# Altium integrated library Infineon_Microcontroller.IntLib: 721 symbols (part 6 of 66)
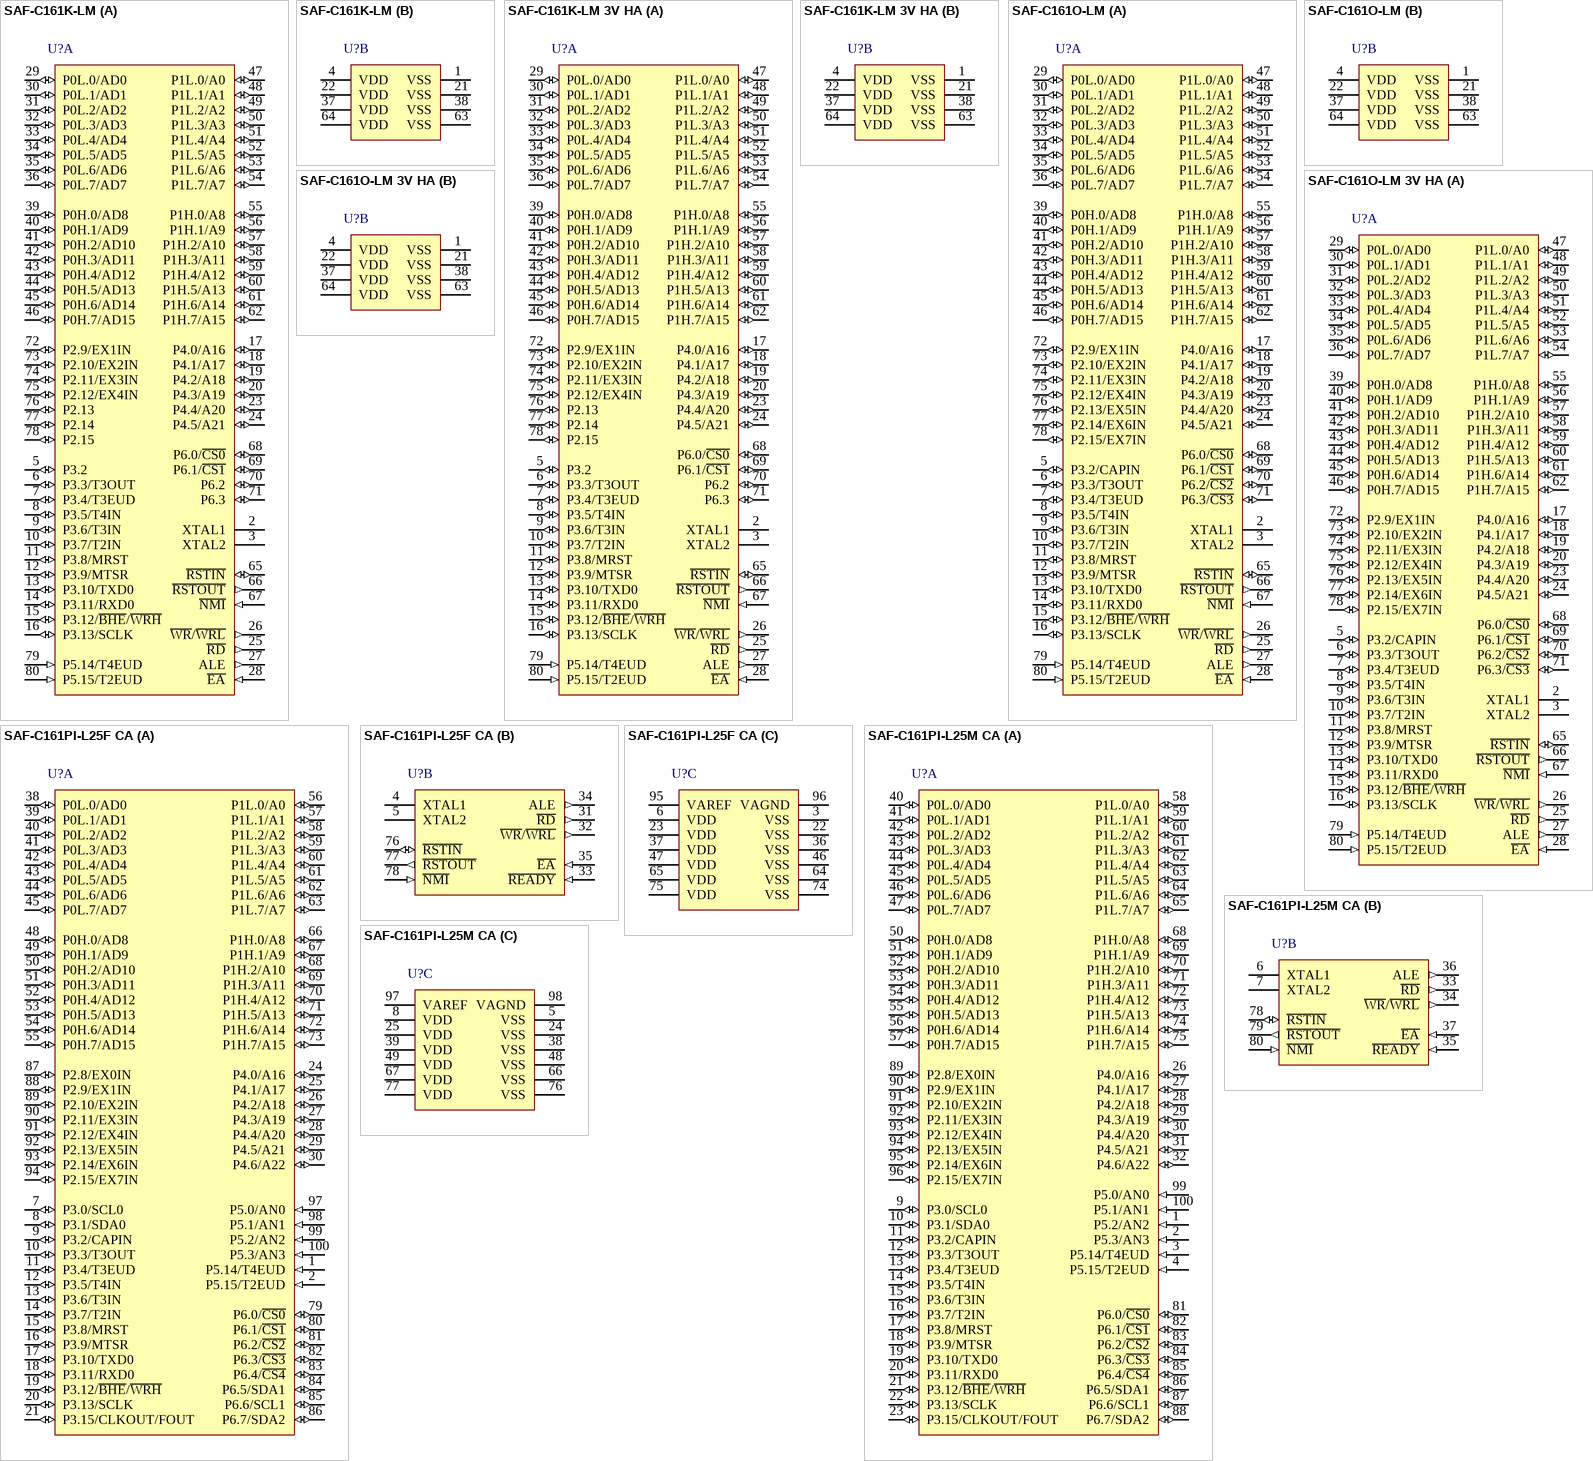
[diagram p123: symbols SAF-C161K-LM to SAF-C161PI-L25M CA]

## SAF-C161PI-L25F CA
designator U?
25 MHz C166 MCU without Program Memory, 3 KByte SRAM, 5 V, -40 to 85 degC, PG-TQFP-100, Reel, Green; Manufacturer: Infineon; PartNumber: SAF-C161PI-L25F CA; A / D input lines (incl. FADC): 4; CAN Nodes: 0; Digital I/O Lines: 76; DSP functionality (e.g MDU/MAC): TRUE; I/O Operation Voltages: 5 V; Instruction width [bits]: 16; Max Clock Frequency: 25 MHz; Number of ADC Modules: 1; Power Modes: 3; SRAM (incl. Cache): 3 KByte; Timer / Counter: 5; Type of Memory: ROM less; Type of Serial I/O Interfaces: ASC(1), SSC(1), I2C(1); PackageVersion: V2.0, 12/2000; PackageReference: P-TQFP-100-1; PackageDescription: 100-Pin Plastic Thin Metric Quad Flat Package, Body 14 x 14 mm, Pitch 0.5 mm; Supplier 1: Mouser; Supplier Part Number 1: 726-SAFC161PIL25FCA; Supplier 2: Digi-Key; Supplier Part Number 2: SAF-C161PI-L25FCAINTR-ND; Supplier 3: Digi-Key; Supplier Part Number 3: SAF-C161PI-L25FCAINCT-ND; Supplier 4: Digi-Key; Supplier Part Number 4: SAF-C161PI-L25FCAINDKR-ND; DMA Channels: 0; External Bus interface: TRUE; Green: TRUE; Halogen-free: TRUE; Oscillator Watchdog: TRUE; Packing: Reel; Real Time Clock (RTC): TRUE; Serial I/O Interfaces: 3; Timed I/O Pins (PWM-Ch,CAPCOM): 0; Watchdog Timer: TRUE; Mounting Technology: Surface Mount; ComponentLink1Description: Manufacturer URL; ComponentLink1URL: http://www.infineon.com/; ComponentLink2Description: Datasheet; ComponentLink2URL: http://www.infineon.com/dgdl/c161pi_ds_199907.pdf?folderId=db3a304412b407950112b4391ae36c3b&fileId=db3a304412b407950112b4391b6f6c3c; ComponentLink3Description: Package Specification; ComponentLink3URL: http://www.google.com/url?q=http://www.infineon.com/dgdl/c165_ds_v20_2000_12_1.pdf?folderId%3Ddb3a304412b407950112b408e8c90004%26fileId%3Ddb3a304412b407950112b43a4ef16fe7&sa=D&usg=ALhdy28l__9bJHCFc89ioLI6B1XModLc3w
footprint INF-P-TQFP-100-1_N (QFP, 100-Leads, Body 14x14mm, Pitch 0.5mm, IPC Medium Density)
footprint INF-P-TQFP-100-1_L (QFP, 100-Leads, Body 14x14mm, Pitch 0.5mm, IPC High Density)
footprint INF-P-TQFP-100-1_M (QFP, 100-Leads, Body 14x14mm, Pitch 0.5mm, IPC Low Density)
part A pins: 1 P5.14/T4EUD (in), 2 P5.15/T2EUD (in), 7 P3.0/SCL0 (io), 8 P3.1/SDA0 (io), 9 P3.2/CAPIN (io), 10 P3.3/T3OUT (io), 11 P3.4/T3EUD (io), 12 P3.5/T4IN (io), 13 P3.6/T3IN (io), 14 P3.7/T2IN (io), 15 P3.8/MRST (io), 16 P3.9/MTSR (io), 17 P3.10/TXD0 (io), 18 P3.11/RXD0 (io), 19 P3.12/~{BHE}/~{WRH} (io), 20 P3.13/SCLK (io), 21 P3.15/CLKOUT/FOUT (io), 24 P4.0/A16 (io), 25 P4.1/A17 (io), 26 P4.2/A18 (io), 27 P4.3/A19 (io), 28 P4.4/A20 (io), 29 P4.5/A21 (io), 30 P4.6/A22 (io), 38 P0L.0/AD0 (io), 39 P0L.1/AD1 (io), 40 P0L.2/AD2 (io), 41 P0L.3/AD3 (io), 42 P0L.4/AD4 (io), 43 P0L.5/AD5 (io), 44 P0L.6/AD6 (io), 45 P0L.7/AD7 (io), 48 P0H.0/AD8 (io), 49 P0H.1/AD9 (io), 50 P0H.2/AD10 (io), 51 P0H.3/AD11 (io), 52 P0H.4/AD12 (io), 53 P0H.5/AD13 (io), 54 P0H.6/AD14 (io), 55 P0H.7/AD15 (io), 56 P1L.0/A0 (io), 57 P1L.1/A1 (io), 58 P1L.2/A2 (io), 59 P1L.3/A3 (io), 60 P1L.4/A4 (io), 61 P1L.5/A5 (io), 62 P1L.6/A6 (io), 63 P1L.7/A7 (io), 66 P1H.0/A8 (io), 67 P1H.1/A9 (io), 68 P1H.2/A10 (io), 69 P1H.3/A11 (io), 70 P1H.4/A12 (io), 71 P1H.5/A13 (io), 72 P1H.6/A14 (io), 73 P1H.7/A15 (io), 79 P6.0/~{CS0} (io), 80 P6.1/~{CS1} (io), 81 P6.2/~{CS2} (io), 82 P6.3/~{CS3} (io), 83 P6.4/~{CS4} (io), 84 P6.5/SDA1 (io), 85 P6.6/SCL1 (io), 86 P6.7/SDA2 (io), 87 P2.8/EX0IN (io), 88 P2.9/EX1IN (io), 89 P2.10/EX2IN (io), 90 P2.11/EX3IN (io), 91 P2.12/EX4IN (io), 92 P2.13/EX5IN (io), 93 P2.14/EX6IN (io), 94 P2.15/EX7IN (io), 97 P5.0/AN0 (in), 98 P5.1/AN1 (in), 99 P5.2/AN2 (in), 100 P5.3/AN3 (in)
part B pins: 4 XTAL1 "Input to the oscillator amplifier and input to the internal clock generator", 5 XTAL2 "Output of the oscillator amplifier circuit", 31 ~{RD} (out) "External Memory Read Strobe. R\D\ is activated for every external instruction or data read access.", 32 ~{WR}/~{WRL} (out) "External Memory Write Strobe. In W\R\-mode this pin is activated for every external data write access. In W\R\L\-mode this pin is activated for low byte data write accesses on a 16-bit bus, and for every data write access on (See Datasheet)", 33 ~{READY} (in) "Ready Input. When the Ready function is enabled, a high level at this pin during an external memory access will force the insertion of memory cycle time waitstates until the pin returns to a low level.An internal pullup (See Datasheet)", 34 ALE (out) "Address Latch Enable Output. Can be used for latching the address into external memory or an address latch in the multiplexed bus modes", 35 ~{EA} (in) "External Access Enable pin. A low level at this pin during and after Reset forces the C161PI to begin instruction execution out of external memory. A high level forces execution out of the internal program memory. "ROMless" (See Datasheet)", 76 ~{RSTIN} (io) "Reset Input with Schmitt-Trigger characteristics. A low level at this pin while the oscillator is  running resets the C161PI. An internal pullup resistor permits power-on reset using only a capacitor connected to 9SS. A (See Datasheet)", 77 ~{RSTOUT} (out) "Internal Reset Indication Output. This pin is set to a low level when the part is executing either a hardware-, a software- or a watchdog timer reset. R\S\T\O\U\T\ remains low until the EINIT (end of initialization) (See Datasheet)", 78 ~{NMI} (in) "Non-Maskable Interrupt Input. A high to low transition at this pin causes the CPU to vector to the NMI trap routine. When the PWRDN (power down) instruction is executed, the N\M\I\ pin must be low in order to force the (See Datasheet)"
part C pins: 3 VSS (power) "Digital Ground.", 6 VDD (power) "Digital Supply Voltage:+ 5 V or + 3 V during normal operation and idle mode.>= 2.5 V during power down mode", 22 VSS (power) "Digital Ground.", 23 VDD (power) "Digital Supply Voltage:+ 5 V or + 3 V during normal operation and idle mode.= 2.5 V during power down mode", 36 VSS (power) "Digital Ground.", 37 VDD (power) "Digital Supply Voltage:+ 5 V or + 3 V during normal operation and idle mode.>= 2.5 V during power down mode", 46 VSS (power) "Digital Ground.", 47 VDD (power) "Digital Supply Voltage:+ 5 V or + 3 V during normal operation and idle mode.= 2.5 V during power down mode", 64 VSS (power) "Digital Ground.", 65 VDD (power) "Digital Supply Voltage:+ 5 V or + 3 V during normal operation and idle mode.= 2.5 V during power down mode", 74 VSS (power) "Digital Ground.", 75 VDD (power) "Digital Supply Voltage:+ 5 V or + 3 V during normal operation and idle mode.= 2.5 V during power down mode", 95 VAREF (power) "Reference voltage for the A/D converter.", 96 VAGND (power) "Reference ground for the A/D converter."

## SAF-C161PI-L25M CA
designator U?
25 MHz C166 MCU without Program Memory, 3 KByte SRAM, 5 V, -40 to 85 degC, PG-MQFP-100, Reel, Green; Manufacturer: Infineon; PartNumber: SAF-C161PI-L25M CA; A / D input lines (incl. FADC): 4; CAN Nodes: 0; Digital I/O Lines: 76; DSP functionality (e.g MDU/MAC): TRUE; I/O Operation Voltages: 5 V; Instruction width [bits]: 16; Max Clock Frequency: 25 MHz; Number of ADC Modules: 1; Power Modes: 3; SRAM (incl. Cache): 3 KByte; Timer / Counter: 5; Type of Memory: ROM less; Type of Serial I/O Interfaces: ASC(1), SSC(1), I2C(1); PackageReference: P-MQFP-100-2; PackageDescription: 100-Pin Plastic Metric Quad Flat Package, Body 20 x 14 mm, Pitch 0.65 mm; Supplier 1: Mouser; Supplier Part Number 1: 726-SAFC161PIL25MCA; Supplier 2: Digi-Key; Supplier Part Number 2: SAF-C161PI-L25MCAINTR-ND; Supplier 3: Digi-Key; Supplier Part Number 3: SAF-C161PI-L25MCAINCT-ND; DMA Channels: 0; External Bus interface: TRUE; Green: TRUE; Halogen-free: TRUE; Oscillator Watchdog: TRUE; Packing: Reel; Real Time Clock (RTC): TRUE; Serial I/O Interfaces: 3; Timed I/O Pins (PWM-Ch,CAPCOM): 0; Watchdog Timer: TRUE; Mounting Technology: Surface Mount; ComponentLink1Description: Manufacturer URL; ComponentLink1URL: http://www.infineon.com/; ComponentLink2Description: Datasheet; ComponentLink2URL: http://www.infineon.com/dgdl/c161pi_ds_199907.pdf?folderId=db3a304412b407950112b4391ae36c3b&fileId=db3a304412b407950112b4391b6f6c3c; ComponentLink3Description: Package Specification; ComponentLink3URL: http://www.infineon.com/cms/packages/SMD_-_Surface_Mounted_Devices/P-PG-MQFP/P-PG-MQFP-100-02.html?__locale=en
footprint INF-P-MQFP-100-2_N (QFP, 100-Leads, Body 20x14mm, Pitch 0.65mm, IPC Medium Density)
footprint INF-P-MQFP-100-2_L (QFP, 100-Leads, Body 20x14mm, Pitch 0.65mm, IPC High Density)
footprint INF-P-MQFP-100-2_M (QFP, 100-Leads, Body 20x14mm, Pitch 0.65mm, IPC Low Density)
part A pins: 1 P5.2/AN2 (in), 2 P5.3/AN3 (in), 3 P5.14/T4EUD (in), 4 P5.15/T2EUD (in), 9 P3.0/SCL0 (io), 10 P3.1/SDA0 (io), 11 P3.2/CAPIN (io), 12 P3.3/T3OUT (io), 13 P3.4/T3EUD (io), 14 P3.5/T4IN (io), 15 P3.6/T3IN (io), 16 P3.7/T2IN (io), 17 P3.8/MRST (io), 18 P3.9/MTSR (io), 19 P3.10/TXD0 (io), 20 P3.11/RXD0 (io), 21 P3.12/~{BHE}/~{WRH} (io), 22 P3.13/SCLK (io), 23 P3.15/CLKOUT/FOUT (io), 26 P4.0/A16 (io), 27 P4.1/A17 (io), 28 P4.2/A18 (io), 29 P4.3/A19 (io), 30 P4.4/A20 (io), 31 P4.5/A21 (io), 32 P4.6/A22 (io), 40 P0L.0/AD0 (io), 41 P0L.1/AD1 (io), 42 P0L.2/AD2 (io), 43 P0L.3/AD3 (io), 44 P0L.4/AD4 (io), 45 P0L.5/AD5 (io), 46 P0L.6/AD6 (io), 47 P0L.7/AD7 (io), 50 P0H.0/AD8 (io), 51 P0H.1/AD9 (io), 52 P0H.2/AD10 (io), 53 P0H.3/AD11 (io), 54 P0H.4/AD12 (io), 55 P0H.5/AD13 (io), 56 P0H.6/AD14 (io), 57 P0H.7/AD15 (io), 58 P1L.0/A0 (io), 59 P1L.1/A1 (io), 60 P1L.2/A2 (io), 61 P1L.3/A3 (io), 62 P1L.4/A4 (io), 63 P1L.5/A5 (io), 64 P1L.6/A6 (io), 65 P1L.7/A7 (io), 68 P1H.0/A8 (io), 69 P1H.1/A9 (io), 70 P1H.2/A10 (io), 71 P1H.3/A11 (io), 72 P1H.4/A12 (io), 73 P1H.5/A13 (io), 74 P1H.6/A14 (io), 75 P1H.7/A15 (io), 81 P6.0/~{CS0} (io), 82 P6.1/~{CS1} (io), 83 P6.2/~{CS2} (io), 84 P6.3/~{CS3} (io), 85 P6.4/~{CS4} (io), 86 P6.5/SDA1 (io), 87 P6.6/SCL1 (io), 88 P6.7/SDA2 (io), 89 P2.8/EX0IN (io), 90 P2.9/EX1IN (io), 91 P2.10/EX2IN (io), 92 P2.11/EX3IN (io), 93 P2.12/EX4IN (io), 94 P2.13/EX5IN (io), 95 P2.14/EX6IN (io), 96 P2.15/EX7IN (io), 99 P5.0/AN0 (in), 100 P5.1/AN1 (in)
part B pins: 6 XTAL1 "Input to the oscillator amplifier and input to the internal clock generator", 7 XTAL2 "Output of the oscillator amplifier circuit", 33 ~{RD} (out) "External Memory Read Strobe. R\D\ is activated for every external instruction or data read access.", 34 ~{WR}/~{WRL} (out) "External Memory Write Strobe. In W\R\-mode this pin is activated for every external data write access. In W\R\L\mode this pin is activated for low byte data write accesses on a 16-bit bus, and for every data write access on (See Datasheet)", 35 ~{READY} (in) "Ready Input. When the Ready function is enabled, a high level at this pin during an external memory access will force the insertion of memory cycle time waitstates until the pin returns to a low level.An internal pullup (See Datasheet)", 36 ALE (out) "Address Latch Enable Output. Can be used for latching the address into external memory or an address latch in the multiplexed bus modes", 37 ~{EA} (in) "External Access Enable pin. A low level at this pin during and after Reset forces the C161PI to begin instruction execution out of external memory. A high level forces execution out of the internal program memory. "ROMless" (See Datasheet)", 78 ~{RSTIN} (io) "Reset Input with Schmitt-Trigger characteristics. A low level at this pin while the oscillator is  running resets the C161PI. An internal pullup resistor permits power-on reset using only a capacitor connected to 9SS. A (See Datasheet)", 79 ~{RSTOUT} (out) "Internal Reset Indication Output. This pin is set to a low level when the part is executing either a hardware-, a software- or a watchdog timer reset. R\S\T\O\U\T\ remains low until the EINIT (end of initialization) (See Datasheet)", 80 ~{NMI} (in) "Non-Maskable Interrupt Input. A high to low transition at this pin causes the CPU to vector to the NMI trap routine. When the PWRDN (power down) instruction is executed, the N\M\I\ pin must be low in order to force the (See Datasheet)"
part C pins: 5 VSS (power) "Digital Ground.", 8 VDD (power) "Digital Supply Voltage:+ 5 V or + 3 V during normal operation and idle mode.>= 2.5 V during power down mode", 24 VSS (power) "Digital Ground.", 25 VDD (power) "Digital Supply Voltage:+ 5 V or + 3 V during normal operation and idle mode.= 2.5 V during power down mode", 38 VSS (power) "Digital Ground.", 39 VDD (power) "Digital Supply Voltage:+ 5 V or + 3 V during normal operation and idle mode.>= 2.5 V during power down mode", 48 VSS (power) "Digital Ground.", 49 VDD (power) "Digital Supply Voltage:+ 5 V or + 3 V during normal operation and idle mode.= 2.5 V during power down mode", 66 VSS (power) "Digital Ground.", 67 VDD (power) "Digital Supply Voltage:+ 5 V or + 3 V during normal operation and idle mode.= 2.5 V during power down mode", 76 VSS (power) "Digital Ground.", 77 VDD (power) "Digital Supply Voltage:+ 5 V or + 3 V during normal operation and idle mode.= 2.5 V during power down mode", 97 VAREF (power) "Reference voltage for the A/D converter.", 98 VAGND (power) "Reference ground for the A/D converter."

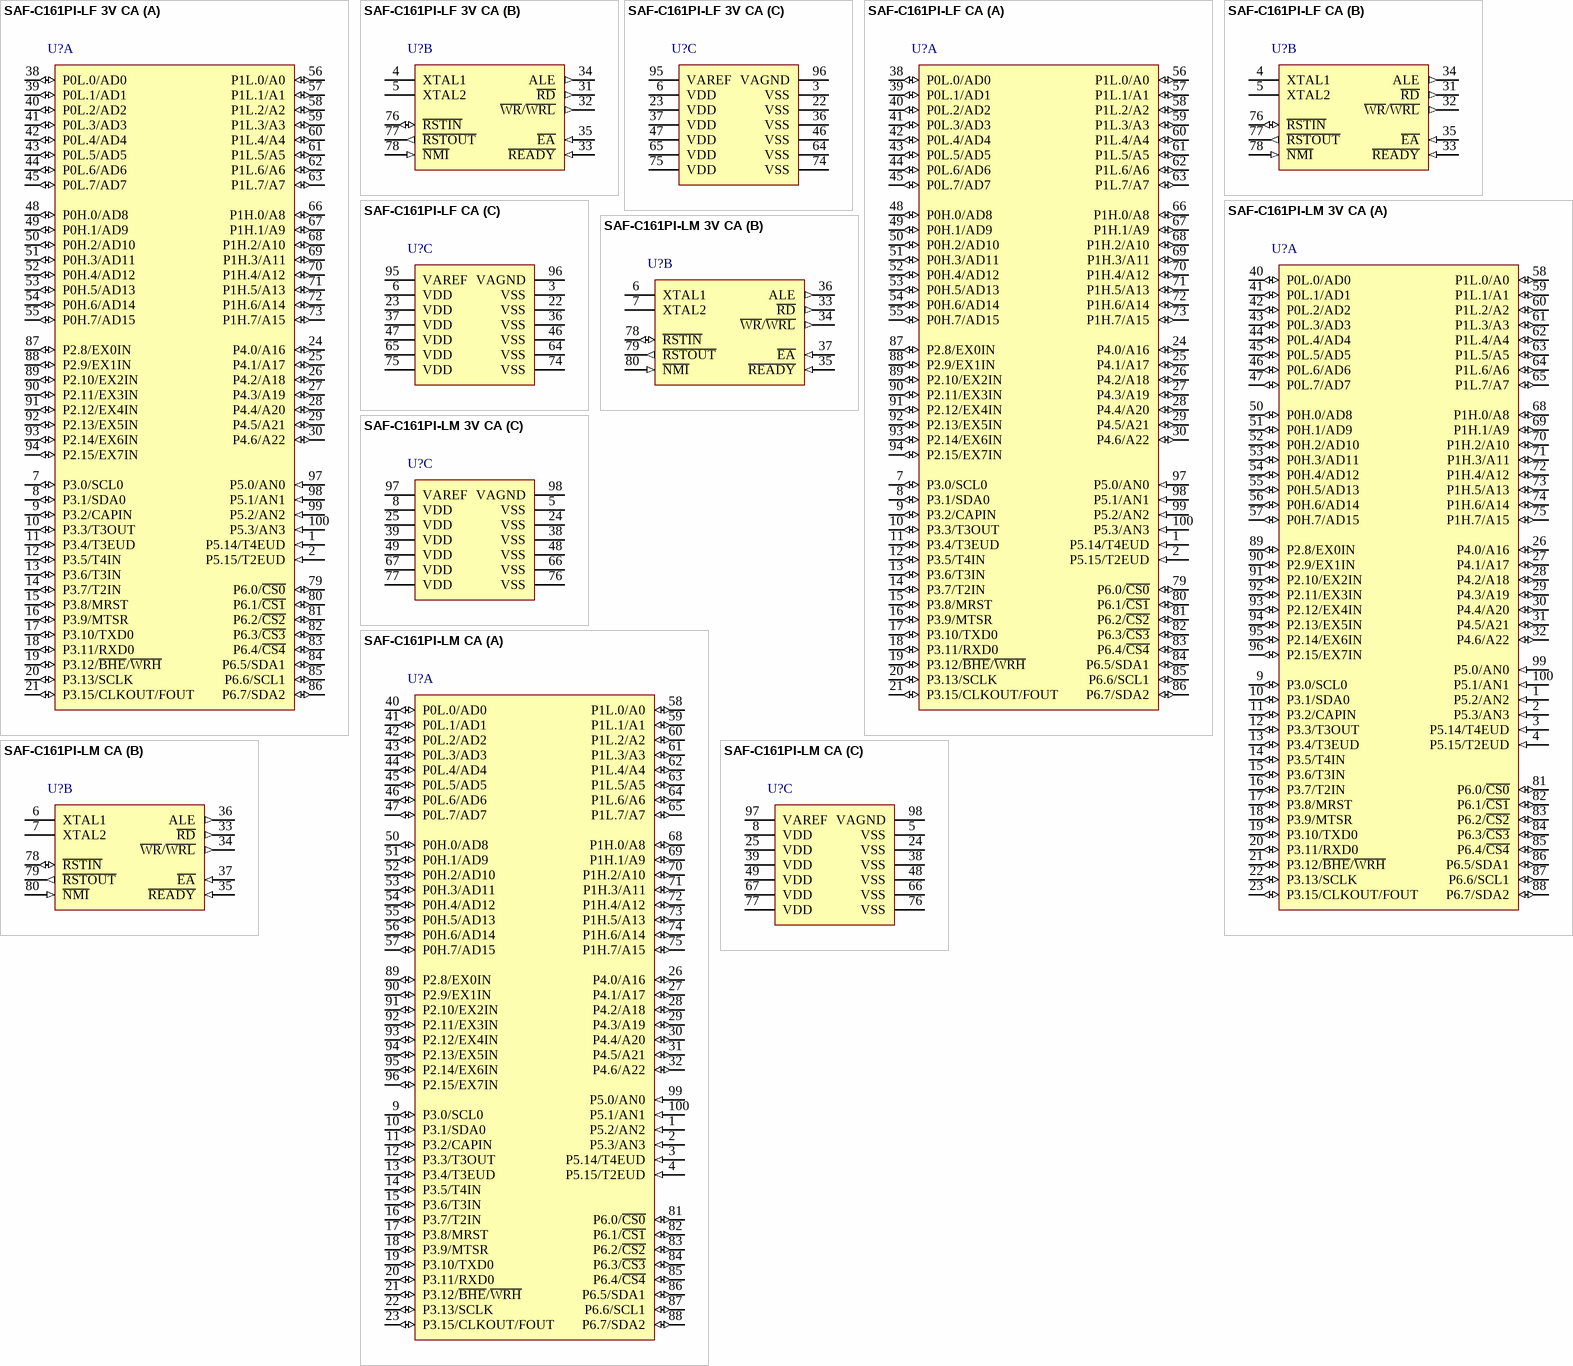
[diagram p8: symbols SAF-C161PI-LF 3V CA to SAF-C161PI-LM CA]

## SAF-C161PI-LF 3V CA
designator U?
20 MHz C166 MCU without Program Memory, 3 KByte SRAM, 3.3 V, -40 to 85 degC, PG-TQFP-100, Reel, Green; Manufacturer: Infineon; PartNumber: SAF-C161PI-LF 3V CA; A / D input lines (incl. FADC): 4; CAN Nodes: 0; Digital I/O Lines: 76; DSP functionality (e.g MDU/MAC): TRUE; I/O Operation Voltages: 3.3 V; Instruction width [bits]: 16; Max Clock Frequency: 20 MHz; Number of ADC Modules: 1; Power Modes: 3; SRAM (incl. Cache): 3 KByte; Timer / Counter: 5; Type of Memory: ROM less; Type of Serial I/O Interfaces: ASC(1), SSC(1), I2C(1); PackageVersion: V2.0, 12/2000; PackageReference: P-TQFP-100-1; PackageDescription: 100-Pin Plastic Thin Metric Quad Flat Package, Body 14 x 14 mm, Pitch 0.5 mm; Supplier 1: Digi-Key; Supplier Part Number 1: SAF-C161PI-LF3VCAINTR-ND; Supplier 2: Digi-Key; Supplier Part Number 2: SAF-C161PI-LF3VCAINCT-ND; Supplier 3: Digi-Key; Supplier Part Number 3: SAF-C161PI-LF3VCAINDKR-ND; DMA Channels: 0; External Bus interface: TRUE; Green: TRUE; Halogen-free: TRUE; Oscillator Watchdog: TRUE; Packing: Reel; Real Time Clock (RTC): TRUE; Serial I/O Interfaces: 3; Timed I/O Pins (PWM-Ch,CAPCOM): 0; Watchdog Timer: TRUE; Mounting Technology: Surface Mount; ComponentLink1Description: Manufacturer URL; ComponentLink1URL: http://www.infineon.com/; ComponentLink2Description: Datasheet; ComponentLink2URL: http://www.infineon.com/dgdl/c161pi_ds_199907.pdf?folderId=db3a304412b407950112b4391ae36c3b&fileId=db3a304412b407950112b4391b6f6c3c; ComponentLink3Description: Package Specification; ComponentLink3URL: http://www.google.com/url?q=http://www.infineon.com/dgdl/c165_ds_v20_2000_12_1.pdf?folderId%3Ddb3a304412b407950112b408e8c90004%26fileId%3Ddb3a304412b407950112b43a4ef16fe7&sa=D&usg=ALhdy28l__9bJHCFc89ioLI6B1XModLc3w
footprint INF-P-TQFP-100-1_N (QFP, 100-Leads, Body 14x14mm, Pitch 0.5mm, IPC Medium Density)
footprint INF-P-TQFP-100-1_L (QFP, 100-Leads, Body 14x14mm, Pitch 0.5mm, IPC High Density)
footprint INF-P-TQFP-100-1_M (QFP, 100-Leads, Body 14x14mm, Pitch 0.5mm, IPC Low Density)
part A pins: 1 P5.14/T4EUD (in), 2 P5.15/T2EUD (in), 7 P3.0/SCL0 (io), 8 P3.1/SDA0 (io), 9 P3.2/CAPIN (io), 10 P3.3/T3OUT (io), 11 P3.4/T3EUD (io), 12 P3.5/T4IN (io), 13 P3.6/T3IN (io), 14 P3.7/T2IN (io), 15 P3.8/MRST (io), 16 P3.9/MTSR (io), 17 P3.10/TXD0 (io), 18 P3.11/RXD0 (io), 19 P3.12/~{BHE}/~{WRH} (io), 20 P3.13/SCLK (io), 21 P3.15/CLKOUT/FOUT (io), 24 P4.0/A16 (io), 25 P4.1/A17 (io), 26 P4.2/A18 (io), 27 P4.3/A19 (io), 28 P4.4/A20 (io), 29 P4.5/A21 (io), 30 P4.6/A22 (io), 38 P0L.0/AD0 (io), 39 P0L.1/AD1 (io), 40 P0L.2/AD2 (io), 41 P0L.3/AD3 (io), 42 P0L.4/AD4 (io), 43 P0L.5/AD5 (io), 44 P0L.6/AD6 (io), 45 P0L.7/AD7 (io), 48 P0H.0/AD8 (io), 49 P0H.1/AD9 (io), 50 P0H.2/AD10 (io), 51 P0H.3/AD11 (io), 52 P0H.4/AD12 (io), 53 P0H.5/AD13 (io), 54 P0H.6/AD14 (io), 55 P0H.7/AD15 (io), 56 P1L.0/A0 (io), 57 P1L.1/A1 (io), 58 P1L.2/A2 (io), 59 P1L.3/A3 (io), 60 P1L.4/A4 (io), 61 P1L.5/A5 (io), 62 P1L.6/A6 (io), 63 P1L.7/A7 (io), 66 P1H.0/A8 (io), 67 P1H.1/A9 (io), 68 P1H.2/A10 (io), 69 P1H.3/A11 (io), 70 P1H.4/A12 (io), 71 P1H.5/A13 (io), 72 P1H.6/A14 (io), 73 P1H.7/A15 (io), 79 P6.0/~{CS0} (io), 80 P6.1/~{CS1} (io), 81 P6.2/~{CS2} (io), 82 P6.3/~{CS3} (io), 83 P6.4/~{CS4} (io), 84 P6.5/SDA1 (io), 85 P6.6/SCL1 (io), 86 P6.7/SDA2 (io), 87 P2.8/EX0IN (io), 88 P2.9/EX1IN (io), 89 P2.10/EX2IN (io), 90 P2.11/EX3IN (io), 91 P2.12/EX4IN (io), 92 P2.13/EX5IN (io), 93 P2.14/EX6IN (io), 94 P2.15/EX7IN (io), 97 P5.0/AN0 (in), 98 P5.1/AN1 (in), 99 P5.2/AN2 (in), 100 P5.3/AN3 (in)
part B pins: 4 XTAL1 "Input to the oscillator amplifier and input to the internal clock generator", 5 XTAL2 "Output of the oscillator amplifier circuit", 31 ~{RD} (out) "External Memory Read Strobe. R\D\ is activated for every external instruction or data read access.", 32 ~{WR}/~{WRL} (out) "External Memory Write Strobe. In W\R\-mode this pin is activated for every external data write access. In W\R\L\-mode this pin is activated for low byte data write accesses on a 16-bit bus, and for every data write access on (See Datasheet)", 33 ~{READY} (in) "Ready Input. When the Ready function is enabled, a high level at this pin during an external memory access will force the insertion of memory cycle time waitstates until the pin returns to a low level.An internal pullup (See Datasheet)", 34 ALE (out) "Address Latch Enable Output. Can be used for latching the address into external memory or an address latch in the multiplexed bus modes", 35 ~{EA} (in) "External Access Enable pin. A low level at this pin during and after Reset forces the C161PI to begin instruction execution out of external memory. A high level forces execution out of the internal program memory. "ROMless" (See Datasheet)", 76 ~{RSTIN} (io) "Reset Input with Schmitt-Trigger characteristics. A low level at this pin while the oscillator is  running resets the C161PI. An internal pullup resistor permits power-on reset using only a capacitor connected to 9SS. A (See Datasheet)", 77 ~{RSTOUT} (out) "Internal Reset Indication Output. This pin is set to a low level when the part is executing either a hardware-, a software- or a watchdog timer reset. R\S\T\O\U\T\ remains low until the EINIT (end of initialization) (See Datasheet)", 78 ~{NMI} (in) "Non-Maskable Interrupt Input. A high to low transition at this pin causes the CPU to vector to the NMI trap routine. When the PWRDN (power down) instruction is executed, the N\M\I\ pin must be low in order to force the (See Datasheet)"
part C pins: 3 VSS (power) "Digital Ground.", 6 VDD (power) "Digital Supply Voltage:+ 5 V or + 3 V during normal operation and idle mode.>= 2.5 V during power down mode", 22 VSS (power) "Digital Ground.", 23 VDD (power) "Digital Supply Voltage:+ 5 V or + 3 V during normal operation and idle mode.= 2.5 V during power down mode", 36 VSS (power) "Digital Ground.", 37 VDD (power) "Digital Supply Voltage:+ 5 V or + 3 V during normal operation and idle mode.>= 2.5 V during power down mode", 46 VSS (power) "Digital Ground.", 47 VDD (power) "Digital Supply Voltage:+ 5 V or + 3 V during normal operation and idle mode.= 2.5 V during power down mode", 64 VSS (power) "Digital Ground.", 65 VDD (power) "Digital Supply Voltage:+ 5 V or + 3 V during normal operation and idle mode.= 2.5 V during power down mode", 74 VSS (power) "Digital Ground.", 75 VDD (power) "Digital Supply Voltage:+ 5 V or + 3 V during normal operation and idle mode.= 2.5 V during power down mode", 95 VAREF (power) "Reference voltage for the A/D converter.", 96 VAGND (power) "Reference ground for the A/D converter."

## SAF-C161PI-LF CA
designator U?
20 MHz C166 MCU without Program Memory, 3 KByte SRAM, 5 V, -40 to 85 degC, PG-TQFP-100, Reel, Green; Manufacturer: Infineon; PartNumber: SAF-C161PI-LF CA; A / D input lines (incl. FADC): 4; CAN Nodes: 0; Digital I/O Lines: 76; DSP functionality (e.g MDU/MAC): TRUE; I/O Operation Voltages: 5 V; Instruction width [bits]: 16; Max Clock Frequency: 20 MHz; Number of ADC Modules: 1; Power Modes: 3; SRAM (incl. Cache): 3 KByte; Timer / Counter: 5; Type of Memory: ROM less; Type of Serial I/O Interfaces: ASC(1), SSC(1), I2C(1); PackageVersion: V2.0, 12/2000; PackageReference: P-TQFP-100-1; PackageDescription: 100-Pin Plastic Thin Metric Quad Flat Package, Body 14 x 14 mm, Pitch 0.5 mm; Supplier 1: Mouser; Supplier Part Number 1: 726-SAFC161PILFCA; Supplier 2: Newark; Supplier Part Number 2: 47W3689; Supplier 3: Farnell; Supplier Part Number 3: 2212017; Supplier 4: Digi-Key; Supplier Part Number 4: SAF-C161PI-LFCAINTR-ND; Supplier 5: Digi-Key; Supplier Part Number 5: SAF-C161PI-LFCAINCT-ND; Supplier 6: Digi-Key; Supplier Part Number 6: SAF-C161PI-LFCAINDKR-ND; DMA Channels: 0; External Bus interface: TRUE; Green: TRUE; Halogen-free: TRUE; Oscillator Watchdog: TRUE; Packing: Reel; Real Time Clock (RTC): TRUE; Serial I/O Interfaces: 3; Timed I/O Pins (PWM-Ch,CAPCOM): 0; Watchdog Timer: TRUE; Mounting Technology: Surface Mount; ComponentLink1Description: Manufacturer URL; ComponentLink1URL: http://www.infineon.com/; ComponentLink2Description: Datasheet; ComponentLink2URL: http://www.infineon.com/dgdl/c161pi_ds_199907.pdf?folderId=db3a304412b407950112b4391ae36c3b&fileId=db3a304412b407950112b4391b6f6c3c; ComponentLink3Description: Package Specification; ComponentLink3URL: http://www.google.com/url?q=http://www.infineon.com/dgdl/c165_ds_v20_2000_12_1.pdf?folderId%3Ddb3a304412b407950112b408e8c90004%26fileId%3Ddb3a304412b407950112b43a4ef16fe7&sa=D&usg=ALhdy28l__9bJHCFc89ioLI6B1XModLc3w
footprint INF-P-TQFP-100-1_N (QFP, 100-Leads, Body 14x14mm, Pitch 0.5mm, IPC Medium Density)
footprint INF-P-TQFP-100-1_L (QFP, 100-Leads, Body 14x14mm, Pitch 0.5mm, IPC High Density)
footprint INF-P-TQFP-100-1_M (QFP, 100-Leads, Body 14x14mm, Pitch 0.5mm, IPC Low Density)
part A pins: 1 P5.14/T4EUD (in), 2 P5.15/T2EUD (in), 7 P3.0/SCL0 (io), 8 P3.1/SDA0 (io), 9 P3.2/CAPIN (io), 10 P3.3/T3OUT (io), 11 P3.4/T3EUD (io), 12 P3.5/T4IN (io), 13 P3.6/T3IN (io), 14 P3.7/T2IN (io), 15 P3.8/MRST (io), 16 P3.9/MTSR (io), 17 P3.10/TXD0 (io), 18 P3.11/RXD0 (io), 19 P3.12/~{BHE}/~{WRH} (io), 20 P3.13/SCLK (io), 21 P3.15/CLKOUT/FOUT (io), 24 P4.0/A16 (io), 25 P4.1/A17 (io), 26 P4.2/A18 (io), 27 P4.3/A19 (io), 28 P4.4/A20 (io), 29 P4.5/A21 (io), 30 P4.6/A22 (io), 38 P0L.0/AD0 (io), 39 P0L.1/AD1 (io), 40 P0L.2/AD2 (io), 41 P0L.3/AD3 (io), 42 P0L.4/AD4 (io), 43 P0L.5/AD5 (io), 44 P0L.6/AD6 (io), 45 P0L.7/AD7 (io), 48 P0H.0/AD8 (io), 49 P0H.1/AD9 (io), 50 P0H.2/AD10 (io), 51 P0H.3/AD11 (io), 52 P0H.4/AD12 (io), 53 P0H.5/AD13 (io), 54 P0H.6/AD14 (io), 55 P0H.7/AD15 (io), 56 P1L.0/A0 (io), 57 P1L.1/A1 (io), 58 P1L.2/A2 (io), 59 P1L.3/A3 (io), 60 P1L.4/A4 (io), 61 P1L.5/A5 (io), 62 P1L.6/A6 (io), 63 P1L.7/A7 (io), 66 P1H.0/A8 (io), 67 P1H.1/A9 (io), 68 P1H.2/A10 (io), 69 P1H.3/A11 (io), 70 P1H.4/A12 (io), 71 P1H.5/A13 (io), 72 P1H.6/A14 (io), 73 P1H.7/A15 (io), 79 P6.0/~{CS0} (io), 80 P6.1/~{CS1} (io), 81 P6.2/~{CS2} (io), 82 P6.3/~{CS3} (io), 83 P6.4/~{CS4} (io), 84 P6.5/SDA1 (io), 85 P6.6/SCL1 (io), 86 P6.7/SDA2 (io), 87 P2.8/EX0IN (io), 88 P2.9/EX1IN (io), 89 P2.10/EX2IN (io), 90 P2.11/EX3IN (io), 91 P2.12/EX4IN (io), 92 P2.13/EX5IN (io), 93 P2.14/EX6IN (io), 94 P2.15/EX7IN (io), 97 P5.0/AN0 (in), 98 P5.1/AN1 (in), 99 P5.2/AN2 (in), 100 P5.3/AN3 (in)
part B pins: 4 XTAL1 "Input to the oscillator amplifier and input to the internal clock generator", 5 XTAL2 "Output of the oscillator amplifier circuit", 31 ~{RD} (out) "External Memory Read Strobe. R\D\ is activated for every external instruction or data read access.", 32 ~{WR}/~{WRL} (out) "External Memory Write Strobe. In W\R\-mode this pin is activated for every external data write access. In W\R\L\-mode this pin is activated for low byte data write accesses on a 16-bit bus, and for every data write access on (See Datasheet)", 33 ~{READY} (in) "Ready Input. When the Ready function is enabled, a high level at this pin during an external memory access will force the insertion of memory cycle time waitstates until the pin returns to a low level.An internal pullup (See Datasheet)", 34 ALE (out) "Address Latch Enable Output. Can be used for latching the address into external memory or an address latch in the multiplexed bus modes", 35 ~{EA} (in) "External Access Enable pin. A low level at this pin during and after Reset forces the C161PI to begin instruction execution out of external memory. A high level forces execution out of the internal program memory. "ROMless" (See Datasheet)", 76 ~{RSTIN} (io) "Reset Input with Schmitt-Trigger characteristics. A low level at this pin while the oscillator is  running resets the C161PI. An internal pullup resistor permits power-on reset using only a capacitor connected to 9SS. A (See Datasheet)", 77 ~{RSTOUT} (out) "Internal Reset Indication Output. This pin is set to a low level when the part is executing either a hardware-, a software- or a watchdog timer reset. R\S\T\O\U\T\ remains low until the EINIT (end of initialization) (See Datasheet)", 78 ~{NMI} (in) "Non-Maskable Interrupt Input. A high to low transition at this pin causes the CPU to vector to the NMI trap routine. When the PWRDN (power down) instruction is executed, the N\M\I\ pin must be low in order to force the (See Datasheet)"
part C pins: 3 VSS (power) "Digital Ground.", 6 VDD (power) "Digital Supply Voltage:+ 5 V or + 3 V during normal operation and idle mode.>= 2.5 V during power down mode", 22 VSS (power) "Digital Ground.", 23 VDD (power) "Digital Supply Voltage:+ 5 V or + 3 V during normal operation and idle mode.= 2.5 V during power down mode", 36 VSS (power) "Digital Ground.", 37 VDD (power) "Digital Supply Voltage:+ 5 V or + 3 V during normal operation and idle mode.>= 2.5 V during power down mode", 46 VSS (power) "Digital Ground.", 47 VDD (power) "Digital Supply Voltage:+ 5 V or + 3 V during normal operation and idle mode.= 2.5 V during power down mode", 64 VSS (power) "Digital Ground.", 65 VDD (power) "Digital Supply Voltage:+ 5 V or + 3 V during normal operation and idle mode.= 2.5 V during power down mode", 74 VSS (power) "Digital Ground.", 75 VDD (power) "Digital Supply Voltage:+ 5 V or + 3 V during normal operation and idle mode.= 2.5 V during power down mode", 95 VAREF (power) "Reference voltage for the A/D converter.", 96 VAGND (power) "Reference ground for the A/D converter."

## SAF-C161PI-LM 3V CA
designator U?
20 MHz C166 MCU without Program Memory, 3 KByte SRAM, 3.3 V, -40 to 85 degC, PG-MQFP-100, Reel, Green; Manufacturer: Infineon; PartNumber: SAF-C161PI-LM 3V CA; A / D input lines (incl. FADC): 4; CAN Nodes: 0; Digital I/O Lines: 76; DSP functionality (e.g MDU/MAC): TRUE; I/O Operation Voltages: 3.3 V; Instruction width [bits]: 16; Max Clock Frequency: 20 MHz; Number of ADC Modules: 1; Power Modes: 3; SRAM (incl. Cache): 3 KByte; Timer / Counter: 5; Type of Memory: ROM less; Type of Serial I/O Interfaces: ASC(1), SSC(1), I2C(1); PackageReference: P-MQFP-100-2; PackageDescription: 100-Pin Plastic Metric Quad Flat Package, Body 20 x 14 mm, Pitch 0.65 mm; Supplier 1: Digi-Key; Supplier Part Number 1: SAF-C161PI-LM3VCAINTR-ND; Supplier 2: Digi-Key; Supplier Part Number 2: SAF-C161PI-LM3VCAINCT-ND; DMA Channels: 0; External Bus interface: TRUE; Green: TRUE; Halogen-free: TRUE; Oscillator Watchdog: TRUE; Packing: Reel; Real Time Clock (RTC): TRUE; Serial I/O Interfaces: 3; Timed I/O Pins (PWM-Ch,CAPCOM): 0; Watchdog Timer: TRUE; Mounting Technology: Surface Mount; ComponentLink1Description: Manufacturer URL; ComponentLink1URL: http://www.infineon.com/; ComponentLink2Description: Datasheet; ComponentLink2URL: http://www.infineon.com/dgdl/c161pi_ds_199907.pdf?folderId=db3a304412b407950112b4391ae36c3b&fileId=db3a304412b407950112b4391b6f6c3c; ComponentLink3Description: Package Specification; ComponentLink3URL: http://www.infineon.com/cms/packages/SMD_-_Surface_Mounted_Devices/P-PG-MQFP/P-PG-MQFP-100-02.html?__locale=en
footprint INF-P-MQFP-100-2_N (QFP, 100-Leads, Body 20x14mm, Pitch 0.65mm, IPC Medium Density)
footprint INF-P-MQFP-100-2_L (QFP, 100-Leads, Body 20x14mm, Pitch 0.65mm, IPC High Density)
footprint INF-P-MQFP-100-2_M (QFP, 100-Leads, Body 20x14mm, Pitch 0.65mm, IPC Low Density)
part A pins: 1 P5.2/AN2 (in), 2 P5.3/AN3 (in), 3 P5.14/T4EUD (in), 4 P5.15/T2EUD (in), 9 P3.0/SCL0 (io), 10 P3.1/SDA0 (io), 11 P3.2/CAPIN (io), 12 P3.3/T3OUT (io), 13 P3.4/T3EUD (io), 14 P3.5/T4IN (io), 15 P3.6/T3IN (io), 16 P3.7/T2IN (io), 17 P3.8/MRST (io), 18 P3.9/MTSR (io), 19 P3.10/TXD0 (io), 20 P3.11/RXD0 (io), 21 P3.12/~{BHE}/~{WRH} (io), 22 P3.13/SCLK (io), 23 P3.15/CLKOUT/FOUT (io), 26 P4.0/A16 (io), 27 P4.1/A17 (io), 28 P4.2/A18 (io), 29 P4.3/A19 (io), 30 P4.4/A20 (io), 31 P4.5/A21 (io), 32 P4.6/A22 (io), 40 P0L.0/AD0 (io), 41 P0L.1/AD1 (io), 42 P0L.2/AD2 (io), 43 P0L.3/AD3 (io), 44 P0L.4/AD4 (io), 45 P0L.5/AD5 (io), 46 P0L.6/AD6 (io), 47 P0L.7/AD7 (io), 50 P0H.0/AD8 (io), 51 P0H.1/AD9 (io), 52 P0H.2/AD10 (io), 53 P0H.3/AD11 (io), 54 P0H.4/AD12 (io), 55 P0H.5/AD13 (io), 56 P0H.6/AD14 (io), 57 P0H.7/AD15 (io), 58 P1L.0/A0 (io), 59 P1L.1/A1 (io), 60 P1L.2/A2 (io), 61 P1L.3/A3 (io), 62 P1L.4/A4 (io), 63 P1L.5/A5 (io), 64 P1L.6/A6 (io), 65 P1L.7/A7 (io), 68 P1H.0/A8 (io), 69 P1H.1/A9 (io), 70 P1H.2/A10 (io), 71 P1H.3/A11 (io), 72 P1H.4/A12 (io), 73 P1H.5/A13 (io), 74 P1H.6/A14 (io), 75 P1H.7/A15 (io), 81 P6.0/~{CS0} (io), 82 P6.1/~{CS1} (io), 83 P6.2/~{CS2} (io), 84 P6.3/~{CS3} (io), 85 P6.4/~{CS4} (io), 86 P6.5/SDA1 (io), 87 P6.6/SCL1 (io), 88 P6.7/SDA2 (io), 89 P2.8/EX0IN (io), 90 P2.9/EX1IN (io), 91 P2.10/EX2IN (io), 92 P2.11/EX3IN (io), 93 P2.12/EX4IN (io), 94 P2.13/EX5IN (io), 95 P2.14/EX6IN (io), 96 P2.15/EX7IN (io), 99 P5.0/AN0 (in), 100 P5.1/AN1 (in)
part B pins: 6 XTAL1 "Input to the oscillator amplifier and input to the internal clock generator", 7 XTAL2 "Output of the oscillator amplifier circuit", 33 ~{RD} (out) "External Memory Read Strobe. R\D\ is activated for every external instruction or data read access.", 34 ~{WR}/~{WRL} (out) "External Memory Write Strobe. In W\R\-mode this pin is activated for every external data write access. In W\R\L\mode this pin is activated for low byte data write accesses on a 16-bit bus, and for every data write access on (See Datasheet)", 35 ~{READY} (in) "Ready Input. When the Ready function is enabled, a high level at this pin during an external memory access will force the insertion of memory cycle time waitstates until the pin returns to a low level.An internal pullup (See Datasheet)", 36 ALE (out) "Address Latch Enable Output. Can be used for latching the address into external memory or an address latch in the multiplexed bus modes", 37 ~{EA} (in) "External Access Enable pin. A low level at this pin during and after Reset forces the C161PI to begin instruction execution out of external memory. A high level forces execution out of the internal program memory. "ROMless" (See Datasheet)", 78 ~{RSTIN} (io) "Reset Input with Schmitt-Trigger characteristics. A low level at this pin while the oscillator is  running resets the C161PI. An internal pullup resistor permits power-on reset using only a capacitor connected to 9SS. A (See Datasheet)", 79 ~{RSTOUT} (out) "Internal Reset Indication Output. This pin is set to a low level when the part is executing either a hardware-, a software- or a watchdog timer reset. R\S\T\O\U\T\ remains low until the EINIT (end of initialization) (See Datasheet)", 80 ~{NMI} (in) "Non-Maskable Interrupt Input. A high to low transition at this pin causes the CPU to vector to the NMI trap routine. When the PWRDN (power down) instruction is executed, the N\M\I\ pin must be low in order to force the (See Datasheet)"
part C pins: 5 VSS (power) "Digital Ground.", 8 VDD (power) "Digital Supply Voltage:+ 5 V or + 3 V during normal operation and idle mode.>= 2.5 V during power down mode", 24 VSS (power) "Digital Ground.", 25 VDD (power) "Digital Supply Voltage:+ 5 V or + 3 V during normal operation and idle mode.= 2.5 V during power down mode", 38 VSS (power) "Digital Ground.", 39 VDD (power) "Digital Supply Voltage:+ 5 V or + 3 V during normal operation and idle mode.>= 2.5 V during power down mode", 48 VSS (power) "Digital Ground.", 49 VDD (power) "Digital Supply Voltage:+ 5 V or + 3 V during normal operation and idle mode.= 2.5 V during power down mode", 66 VSS (power) "Digital Ground.", 67 VDD (power) "Digital Supply Voltage:+ 5 V or + 3 V during normal operation and idle mode.= 2.5 V during power down mode", 76 VSS (power) "Digital Ground.", 77 VDD (power) "Digital Supply Voltage:+ 5 V or + 3 V during normal operation and idle mode.= 2.5 V during power down mode", 97 VAREF (power) "Reference voltage for the A/D converter.", 98 VAGND (power) "Reference ground for the A/D converter."

## SAF-C161PI-LM CA
designator U?
20 MHz C166 MCU without Program Memory, 3 KByte SRAM, 5 V, -40 to 85 degC, PG-MQFP-100, Reel, Green; Manufacturer: Infineon; PartNumber: SAF-C161PI-LM CA; A / D input lines (incl. FADC): 4; CAN Nodes: 0; Digital I/O Lines: 76; DSP functionality (e.g MDU/MAC): TRUE; I/O Operation Voltages: 5 V; Instruction width [bits]: 16; Max Clock Frequency: 20 MHz; Number of ADC Modules: 1; Power Modes: 3; SRAM (incl. Cache): 3 KByte; Timer / Counter: 5; Type of Memory: ROM less; Type of Serial I/O Interfaces: ASC(1), SSC(1), I2C(1); PackageReference: P-MQFP-100-2; PackageDescription: 100-Pin Plastic Metric Quad Flat Package, Body 20 x 14 mm, Pitch 0.65 mm; Supplier 1: Mouser; Supplier Part Number 1: 726-SAFC161PILMCA; Supplier 2: Digi-Key; Supplier Part Number 2: SAF-C161PI-LMCAINTR-ND; Supplier 3: Digi-Key; Supplier Part Number 3: SAF-C161PI-LMCAINCT-ND; DMA Channels: 0; External Bus interface: TRUE; Green: TRUE; Halogen-free: TRUE; Oscillator Watchdog: TRUE; Packing: Reel; Real Time Clock (RTC): TRUE; Serial I/O Interfaces: 3; Timed I/O Pins (PWM-Ch,CAPCOM): 0; Watchdog Timer: TRUE; Mounting Technology: Surface Mount; ComponentLink1Description: Manufacturer URL; ComponentLink1URL: http://www.infineon.com/; ComponentLink2Description: Datasheet; ComponentLink2URL: http://www.infineon.com/dgdl/c161pi_ds_199907.pdf?folderId=db3a304412b407950112b4391ae36c3b&fileId=db3a304412b407950112b4391b6f6c3c; ComponentLink3Description: Package Specification; ComponentLink3URL: http://www.infineon.com/cms/packages/SMD_-_Surface_Mounted_Devices/P-PG-MQFP/P-PG-MQFP-100-02.html?__locale=en
footprint INF-P-MQFP-100-2_N (QFP, 100-Leads, Body 20x14mm, Pitch 0.65mm, IPC Medium Density)
footprint INF-P-MQFP-100-2_L (QFP, 100-Leads, Body 20x14mm, Pitch 0.65mm, IPC High Density)
footprint INF-P-MQFP-100-2_M (QFP, 100-Leads, Body 20x14mm, Pitch 0.65mm, IPC Low Density)
part A pins: 1 P5.2/AN2 (in), 2 P5.3/AN3 (in), 3 P5.14/T4EUD (in), 4 P5.15/T2EUD (in), 9 P3.0/SCL0 (io), 10 P3.1/SDA0 (io), 11 P3.2/CAPIN (io), 12 P3.3/T3OUT (io), 13 P3.4/T3EUD (io), 14 P3.5/T4IN (io), 15 P3.6/T3IN (io), 16 P3.7/T2IN (io), 17 P3.8/MRST (io), 18 P3.9/MTSR (io), 19 P3.10/TXD0 (io), 20 P3.11/RXD0 (io), 21 P3.12/~{BHE}/~{WRH} (io), 22 P3.13/SCLK (io), 23 P3.15/CLKOUT/FOUT (io), 26 P4.0/A16 (io), 27 P4.1/A17 (io), 28 P4.2/A18 (io), 29 P4.3/A19 (io), 30 P4.4/A20 (io), 31 P4.5/A21 (io), 32 P4.6/A22 (io), 40 P0L.0/AD0 (io), 41 P0L.1/AD1 (io), 42 P0L.2/AD2 (io), 43 P0L.3/AD3 (io), 44 P0L.4/AD4 (io), 45 P0L.5/AD5 (io), 46 P0L.6/AD6 (io), 47 P0L.7/AD7 (io), 50 P0H.0/AD8 (io), 51 P0H.1/AD9 (io), 52 P0H.2/AD10 (io), 53 P0H.3/AD11 (io), 54 P0H.4/AD12 (io), 55 P0H.5/AD13 (io), 56 P0H.6/AD14 (io), 57 P0H.7/AD15 (io), 58 P1L.0/A0 (io), 59 P1L.1/A1 (io), 60 P1L.2/A2 (io), 61 P1L.3/A3 (io), 62 P1L.4/A4 (io), 63 P1L.5/A5 (io), 64 P1L.6/A6 (io), 65 P1L.7/A7 (io), 68 P1H.0/A8 (io), 69 P1H.1/A9 (io), 70 P1H.2/A10 (io), 71 P1H.3/A11 (io), 72 P1H.4/A12 (io), 73 P1H.5/A13 (io), 74 P1H.6/A14 (io), 75 P1H.7/A15 (io), 81 P6.0/~{CS0} (io), 82 P6.1/~{CS1} (io), 83 P6.2/~{CS2} (io), 84 P6.3/~{CS3} (io), 85 P6.4/~{CS4} (io), 86 P6.5/SDA1 (io), 87 P6.6/SCL1 (io), 88 P6.7/SDA2 (io), 89 P2.8/EX0IN (io), 90 P2.9/EX1IN (io), 91 P2.10/EX2IN (io), 92 P2.11/EX3IN (io), 93 P2.12/EX4IN (io), 94 P2.13/EX5IN (io), 95 P2.14/EX6IN (io), 96 P2.15/EX7IN (io), 99 P5.0/AN0 (in), 100 P5.1/AN1 (in)
part B pins: 6 XTAL1 "Input to the oscillator amplifier and input to the internal clock generator", 7 XTAL2 "Output of the oscillator amplifier circuit", 33 ~{RD} (out) "External Memory Read Strobe. R\D\ is activated for every external instruction or data read access.", 34 ~{WR}/~{WRL} (out) "External Memory Write Strobe. In W\R\-mode this pin is activated for every external data write access. In W\R\L\mode this pin is activated for low byte data write accesses on a 16-bit bus, and for every data write access on (See Datasheet)", 35 ~{READY} (in) "Ready Input. When the Ready function is enabled, a high level at this pin during an external memory access will force the insertion of memory cycle time waitstates until the pin returns to a low level.An internal pullup (See Datasheet)", 36 ALE (out) "Address Latch Enable Output. Can be used for latching the address into external memory or an address latch in the multiplexed bus modes", 37 ~{EA} (in) "External Access Enable pin. A low level at this pin during and after Reset forces the C161PI to begin instruction execution out of external memory. A high level forces execution out of the internal program memory. "ROMless" (See Datasheet)", 78 ~{RSTIN} (io) "Reset Input with Schmitt-Trigger characteristics. A low level at this pin while the oscillator is  running resets the C161PI. An internal pullup resistor permits power-on reset using only a capacitor connected to 9SS. A (See Datasheet)", 79 ~{RSTOUT} (out) "Internal Reset Indication Output. This pin is set to a low level when the part is executing either a hardware-, a software- or a watchdog timer reset. R\S\T\O\U\T\ remains low until the EINIT (end of initialization) (See Datasheet)", 80 ~{NMI} (in) "Non-Maskable Interrupt Input. A high to low transition at this pin causes the CPU to vector to the NMI trap routine. When the PWRDN (power down) instruction is executed, the N\M\I\ pin must be low in order to force the (See Datasheet)"
part C pins: 5 VSS (power) "Digital Ground.", 8 VDD (power) "Digital Supply Voltage:+ 5 V or + 3 V during normal operation and idle mode.>= 2.5 V during power down mode", 24 VSS (power) "Digital Ground.", 25 VDD (power) "Digital Supply Voltage:+ 5 V or + 3 V during normal operation and idle mode.= 2.5 V during power down mode", 38 VSS (power) "Digital Ground.", 39 VDD (power) "Digital Supply Voltage:+ 5 V or + 3 V during normal operation and idle mode.>= 2.5 V during power down mode", 48 VSS (power) "Digital Ground.", 49 VDD (power) "Digital Supply Voltage:+ 5 V or + 3 V during normal operation and idle mode.= 2.5 V during power down mode", 66 VSS (power) "Digital Ground.", 67 VDD (power) "Digital Supply Voltage:+ 5 V or + 3 V during normal operation and idle mode.= 2.5 V during power down mode", 76 VSS (power) "Digital Ground.", 77 VDD (power) "Digital Supply Voltage:+ 5 V or + 3 V during normal operation and idle mode.= 2.5 V during power down mode", 97 VAREF (power) "Reference voltage for the A/D converter.", 98 VAGND (power) "Reference ground for the A/D converter."

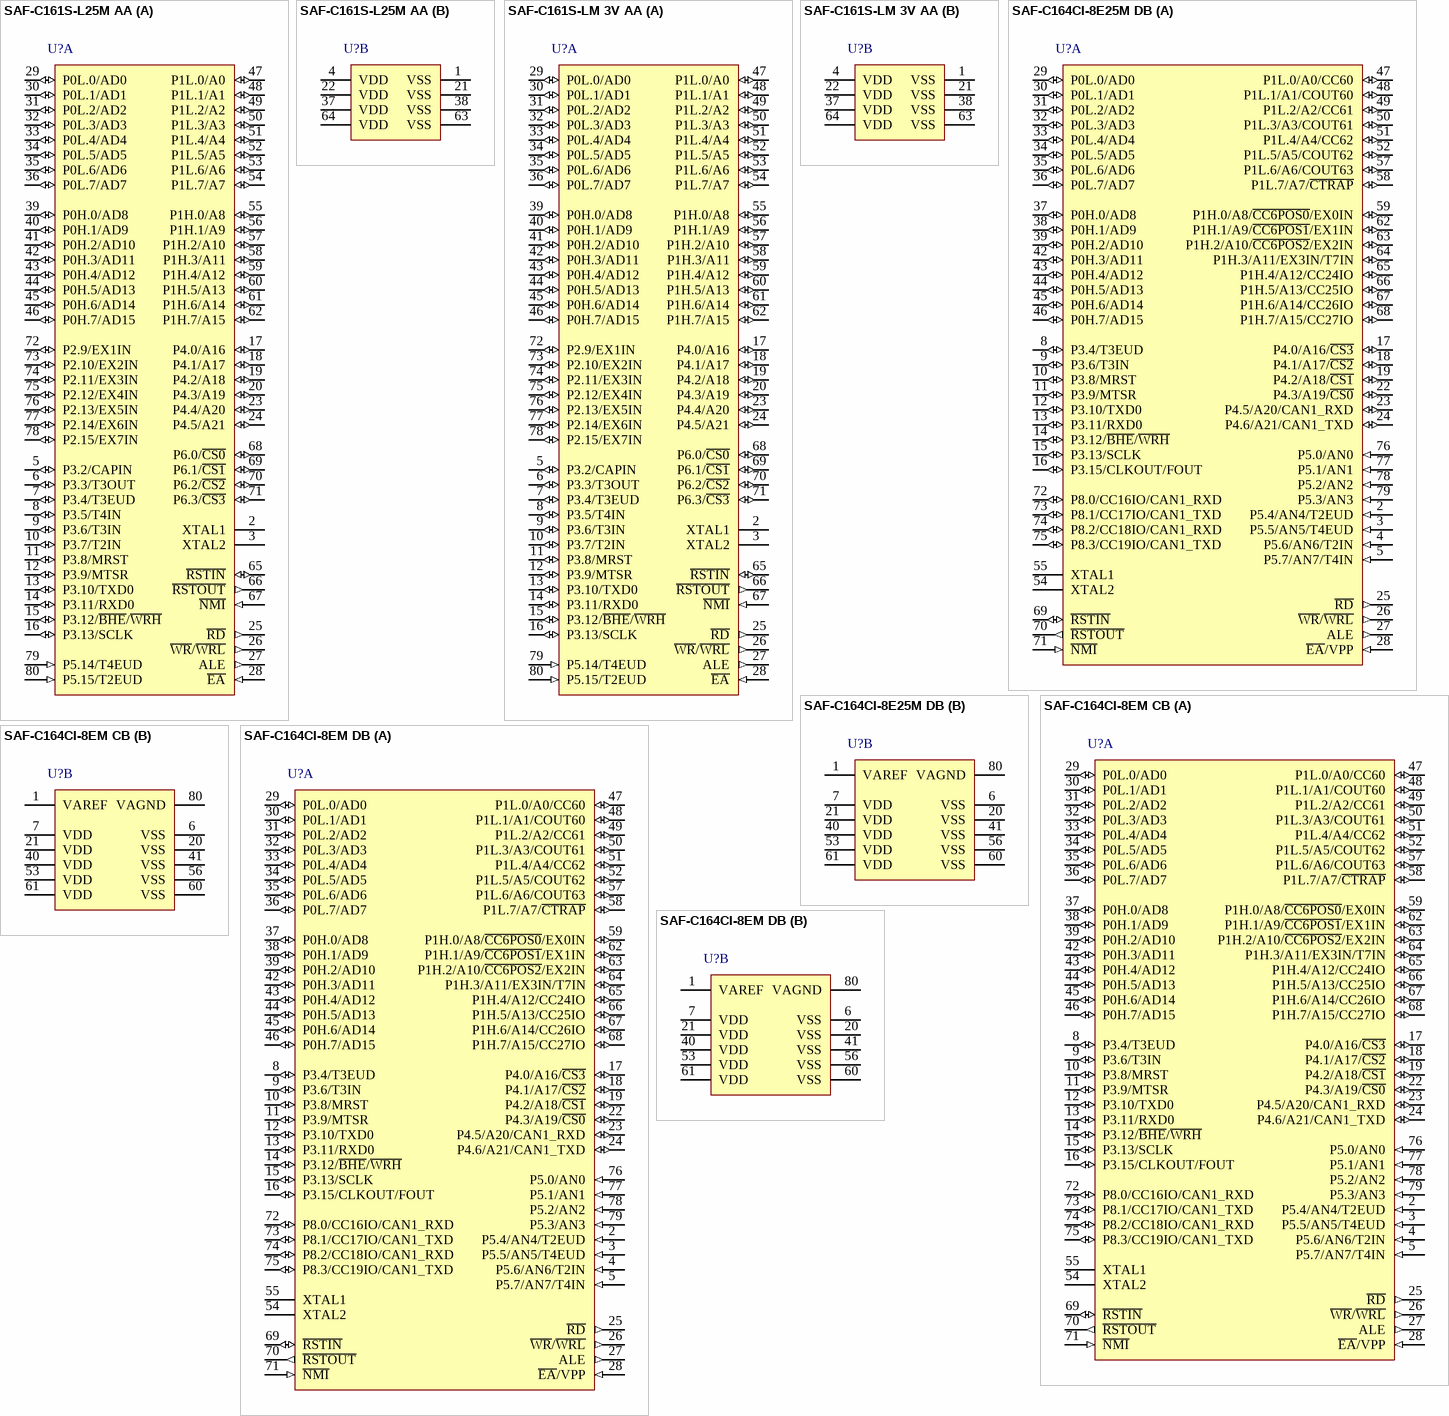
[diagram p9: symbols SAF-C161S-L25M AA to SAF-C164CI-8EM DB]

## SAF-C161S-L25M AA
designator U?
25 MHz C166 MCU without Program Memory, 2 KByte SRAM, 5 V, -40 to 85 degC, PG-MQFP-80, Reel, Green; Manufacturer: Infineon; PartNumber: SAF-C161S-L25M AA; A / D input lines (incl. FADC): 0; Digital I/O Lines: 63; DSP functionality (e.g MDU/MAC): TRUE; I/O Operation Voltages: 5 V; Instruction width [bits]: 16; Max Clock Frequency: 25 MHz; Power Modes: 3; Serial I/O Interfaces: 2; SRAM (incl. Cache): 2 KByte; Timer / Counter: 5; Type of Memory: ROM less; Type of Serial I/O Interfaces: ASC(1), SSC(1); DatasheetVersion: Rev. 1.0; PackageVersion: V2.0, 05/2001; PackageReference: P-MQFP-80-7; PackageDescription: 80-Pin Plastic Metric Quad Flat Package, Body 14 x 14 mm, Pitch 0.65 mm; Supplier 1: Mouser; Supplier Part Number 1: 726-SAFC161SL25MAA; Supplier 2: Digi-Key; Supplier Part Number 2: SAF-C161S-L25MAAINTR-ND; Supplier 3: Digi-Key; Supplier Part Number 3: SAF-C161S-L25MAAINCT-ND; CAN Nodes: 0; DMA Channels: 0; External Bus interface: TRUE; Green: TRUE; Halogen-free: TRUE; Number of ADC Modules: 0; Oscillator Watchdog: TRUE; Packing: Reel; Real Time Clock (RTC): TRUE; Timed I/O Pins (PWM-Ch,CAPCOM): 0; Watchdog Timer: TRUE; Mounting Technology: Surface Mount; ComponentLink1Description: Manufacturer URL; ComponentLink1URL: http://www.infineon.com/; ComponentLink2Description: Datasheet; ComponentLink2URL: http://www.infineon.com/dgdl/c161s_ds_v1.0_200311.pdf?folderId=db3a304412b407950112b41d58622ffd&fileId=db3a304412b407950112b41d58bb2ffe; ComponentLink3Description: Package Specification; ComponentLink3URL: http://www.infineon.com/dgdl/c164ci_ds_v2.0_2001_05_1.pdf?folderId=db3a304412b407950112b408e8c90004&fileId=db3a304412b407950112b41e161331d0&sId=db3a30433d956bc3013d9b13f66314ac
footprint INF-P-MQFP-80-7_N (QFP, 80-Leads, Body 14x14mm, Pitch 0.65mm, IPC Medium Density)
footprint INF-P-MQFP-80-7_L (QFP, 80-Leads, Body 14x14mm, Pitch 0.65mm, IPC High Density)
footprint INF-P-MQFP-80-7_M (QFP, 80-Leads, Body 14x14mm, Pitch 0.65mm, IPC Low Density)
part A pins: 2 XTAL1 "Input to the oscillator amplifier and input to the internal clock generator", 3 XTAL2 "Output of the oscillator amplifier circuit.", 5 P3.2/CAPIN (io), 6 P3.3/T3OUT (io), 7 P3.4/T3EUD (io), 8 P3.5/T4IN (io), 9 P3.6/T3IN (io), 10 P3.7/T2IN (io), 11 P3.8/MRST (io), 12 P3.9/MTSR (io), 13 P3.10/TXD0 (io), 14 P3.11/RXD0 (io), 15 P3.12/~{BHE}/~{WRH} (io), 16 P3.13/SCLK (io), 17 P4.0/A16 (io), 18 P4.1/A17 (io), 19 P4.2/A18 (io), 20 P4.3/A19 (io), 23 P4.4/A20 (io), 24 P4.5/A21 (io), 25 ~{RD} (out) "External Memory Read Strobe. R\D\ is activated for every external instruction or data read access.", 26 ~{WR}/~{WRL} (out) "External Memory Write Strobe. In W\R\-mode this pin is activated for every external data write access. In W\R\L\-mode this pin is activated for low byte data write accesses on a 16-bit bus, and for every data write access on (See Datasheet)", 27 ALE (out) "Address Latch Enable Output. Can be used for latching the address into external memory or an address latch in the multiplexed bus modes.", 28 ~{EA} (in) "External Access Enable pin. A low level at this pin during and after Reset forces the C161K/O to begin instruction execution out of external memory. A high level forces execution out of the internal program memory. (See Datasheet)", 29 P0L.0/AD0 (io), 30 P0L.1/AD1 (io), 31 P0L.2/AD2 (io), 32 P0L.3/AD3 (io), 33 P0L.4/AD4 (io), 34 P0L.5/AD5 (io), 35 P0L.6/AD6 (io), 36 P0L.7/AD7 (io), 39 P0H.0/AD8 (io), 40 P0H.1/AD9 (io), 41 P0H.2/AD10 (io), 42 P0H.3/AD11 (io), 43 P0H.4/AD12 (io), 44 P0H.5/AD13 (io), 45 P0H.6/AD14 (io), 46 P0H.7/AD15 (io), 47 P1L.0/A0 (io), 48 P1L.1/A1 (io), 49 P1L.2/A2 (io), 50 P1L.3/A3 (io), 51 P1L.4/A4 (io), 52 P1L.5/A5 (io), 53 P1L.6/A6 (io), 54 P1L.7/A7 (io), 55 P1H.0/A8 (io), 56 P1H.1/A9 (io), 57 P1H.2/A10 (io), 58 P1H.3/A11 (io), 59 P1H.4/A12 (io), 60 P1H.5/A13 (io), 61 P1H.6/A14 (io), 62 P1H.7/A15 (io), 65 ~{RSTIN} (io) "Reset Input with Schmitt-Trigger characteristics. A low level at this pin while the oscillator is running resets the C161K/O. An internal pullup resistor permits power-on reset using only a capacitor connected to VSS. A (See Datasheet)", 66 ~{RSTOUT} (out) "Internal Reset Indication Output. This pin is set to a low level when the part is executing either a hardware-, a software- or a watchdog timer reset. R\S\T\O\U\T\ remains low until the EINIT (end of initialization) (See Datasheet)", 67 ~{NMI} (in) "Non-Maskable Interrupt Input. A high to low transition at this pin causes the CPU to vector to the NMI trap routine. When the PWRDN (power down) instruction is executed, the N\M\I\ pin must be low in order to force the (See Datasheet)", 68 P6.0/~{CS0} (io), 69 P6.1/~{CS1} (io), 70 P6.2/~{CS2} (io), 71 P6.3/~{CS3} (io), 72 P2.9/EX1IN (io), 73 P2.10/EX2IN (io), 74 P2.11/EX3IN (io), 75 P2.12/EX4IN (io), 76 P2.13/EX5IN (io), 77 P2.14/EX6IN (io), 78 P2.15/EX7IN (io), 79 P5.14/T4EUD (in), 80 P5.15/T2EUD (in)
part B pins: 1 VSS (power) "Digital Ground.", 4 VDD (power) "Digital Supply Voltage: + 5 V during normal operation and idle mode.+ 3.3 V during reduced supply operation and idle mode.>= 2.5 V during power down mode.", 21 VSS (power) "Digital Ground.", 22 VDD (power) "Digital Supply Voltage: + 5 V during normal operation and idle mode.+ 3.3 V during reduced supply operation and idle mode.>= 2.5 V during power down mode.", 37 VDD (power) "Digital Supply Voltage: + 5 V during normal operation and idle mode.+ 3.3 V during reduced supply operation and idle mode.>= 2.5 V during power down mode.", 38 VSS (power) "Digital Ground.", 63 VSS (power) "Digital Ground.", 64 VDD (power) "Digital Supply Voltage: + 5 V during normal operation and idle mode.+ 3.3 V during reduced supply operation and idle mode.>= 2.5 V during power down mode."